# Altium schematic symbol library CAP-POL-SMD.SchLib: 1 symbol
Pins are listed as number, name and electrical type; pins without a type are passive.

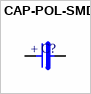
[diagram p0: symbol CAP-POL-SMD]

## CAP-POL-SMD
designator C?
pins: 1, 2
text: +